# Altium schematic symbol library ESP8266.SchLib: 1 symbol
Pins are listed as number, name and electrical type; pins without a type are passive.

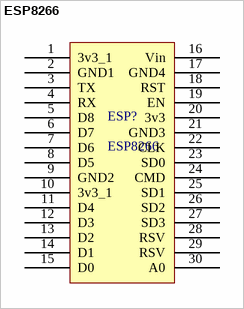
[diagram p0: symbol ESP8266]

## ESP8266
designator ESP?
footprint ESP8266
pins: 1 3v3_1, 2 GND1, 3 TX, 4 RX, 5 D8, 6 D7, 7 D6, 8 D5, 9 GND2, 10 3v3_1, 11 D4, 12 D3, 13 D2, 14 D1, 15 D0, 16 Vin, 17 GND4, 18 RST, 19 EN, 20 3v3, 21 GND3, 22 CLK, 23 SD0, 24 CMD, 25 SD1, 26 SD2, 27 SD3, 28 RSV, 29 RSV, 30 A0